# Altium footprint library EtherIOv2.PcbLib: 62 footprints (part 3 of 4)
Each footprint in its own frame and in the unit in brackets; x right, y up, seen from the top. Pads: shape width x height; smd on the part's side, far side on the other; paste and mask are expansions set on the pad; w line width, h text height; cw(c..) or ccw(c..) is an arc to the next point about the centre after c.
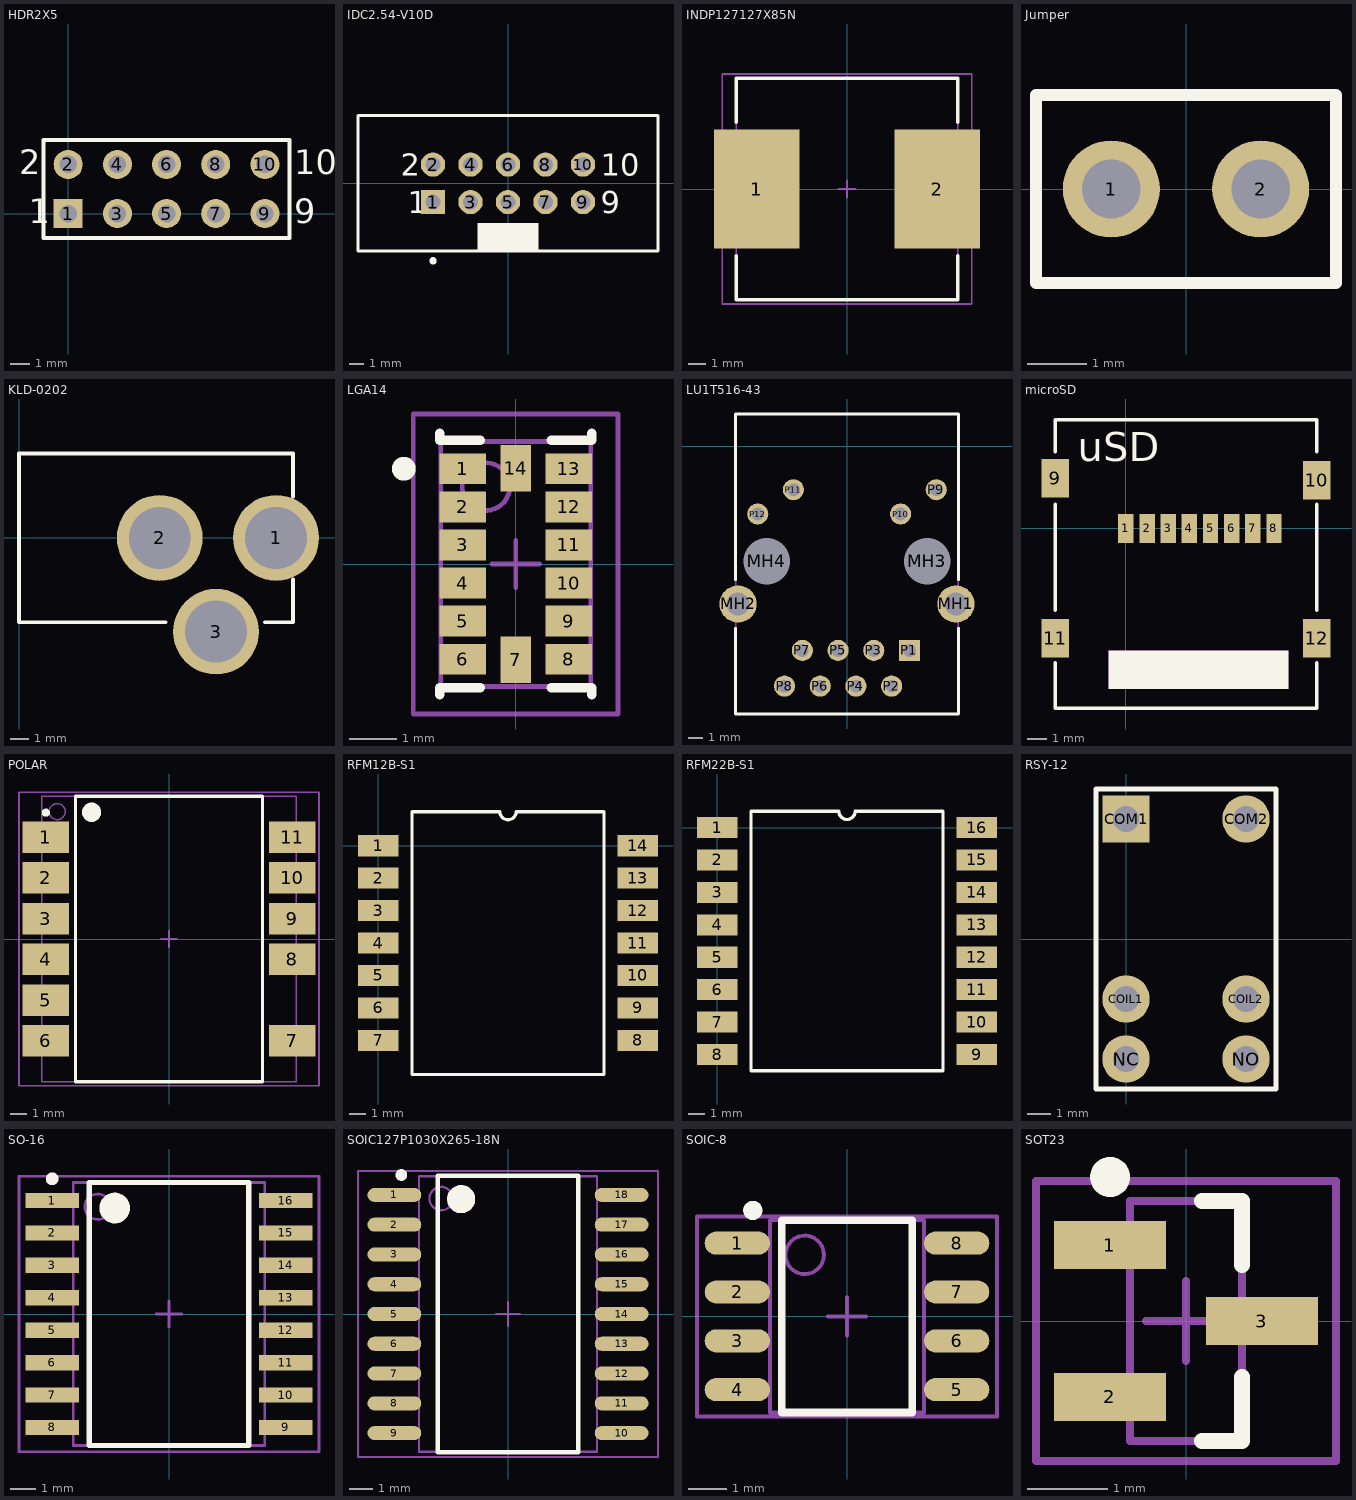
[diagram p2: the footprints below, top view; thin cyan lines are the x and y axes]

## HDR2X5 [mm] "Connector; Header; 5x2 Position"
pads (10):
  rect 1.5x1.5 hole 0.9: 1(0,0)
  round 1.5 hole 0.9: 2(0,2.54) 3(2.54,0) 4(2.54,2.54) 5(5.08,0) 6(5.08,2.54) 7(7.62,0) 8(7.62,2.54) 9(10.16,0) 10(10.16,2.54)
Top Overlay:
  lines w0.2: -1.27,-1.27 -1.27,3.81 11.43,3.81 11.43,-1.27 -1.27,-1.27
  text "2" at -2.54,2.032 h1.27
  text "1" at -2.032,-0.508 h1.27
  text "9" at 11.684,-0.508 h1.27
  text "10" at 11.684,2.032 h1.27

## IDC2.54-V10D [mm] "Connector; IDC, Low Profile Male Header, Thru-Hole; 10 Position; Vertical; Pitch 2.54 mm; Body 20.32 x 9.2 x 9.45 mm (LxWxH)"
height 9.45
pads (10):
  rect 1.65x1.65 hole 1: 1(-5.08,-1.27)
  round 1.65 hole 1: 2(-5.08,1.27) 3(-2.54,-1.27) 4(-2.54,1.27) 5(0,-1.27) 6(0,1.27) 7(2.54,-1.27) 8(2.54,1.27) 9(5.08,-1.27) 10(5.08,1.27)
Top Overlay:
  circle w0.25: c-5.08,-5.25 r0.125
  rectangle: -2.05,-4.6 2.05,-2.7
  lines w0.2: -10.16,-4.6 10.16,-4.6 10.16,4.6 -10.16,4.6 -10.16,-4.6
  text "9" at 6.28,-2.02 h1.5
  text "10" at 6.28,0.52 h1.5
  text "1" at -6.78,-2.02 h1.5
  text "2" at -7.28,0.52 h1.5
Mechanical 13:
  lines w0.1: -10.16,-4.6 -10.16,4.6 10.16,4.6 10.16,-4.6 -10.16,-4.6
3D body: height 9.45, standoff 0, extent -10.16,-4.6 10.16,4.6

## INDP127127X85N [mm] "Precision Wire Wound Inductor, 2-Leads, Body 12,7x12,7mm, IPC Medium Density"
height 8.5
pads (2):
  rect 5x7 smd: 1(-5.3,0) 2(5.3,0)
Top Overlay:
  lines w0.2: -6.5,-3.9 -6.5,-6.5 6.5,-6.5 6.5,-3.9 ; -6.5,3.9 -6.5,6.5 6.5,6.5 6.5,3.9
Mechanical 13:
  lines w0.1: -6.5,-6.5 -6.5,6.5 6.5,6.5 6.5,-6.5 -6.5,-6.5
Mechanical 15:
  lines w0.1: -0.5,0 0.5,0 ; 0,-0.5 0,0.5 ; -7.325,-6.75 -7.325,6.75 7.325,6.75 7.325,-6.75 -7.325,-6.75
3D body: height 8.5, standoff 0, extent -6.5,-6.5 6.5,6.5

## Jumper [mm] "Jumper, 2.54 pitch"
height 6
pads (2):
  round 1.65 hole 1: 1(-1.27,0) 2(1.27,0)
Top Overlay:
  lines w0.2: -2.55,-1.6 2.55,-1.6 2.55,1.6 -2.55,1.6 -2.55,-1.6

## KLD-0202 [mil] "DC Power Jack, 2.5mm, KLD Series, PCB Mount"
pads (3):
  round 180 hole 130: 1(539.37,0) 2(295.28,0) 3(413.39,-196.85)
Top Overlay:
  lines w7.87: 307.09,-177.17 0,-177.17 0,177.17 574.8,177.17 574.8,86.61 ; 515.75,-177.17 574.8,-177.17 574.8,-86.61

## LGA14 [mm] "LIS302"
height 1
pads (14):
  rect 0.975x0.65 smd: 1(-1.112,2) 2(-1.112,1.2) 3(-1.112,0.4) 4(-1.112,-0.4) 5(-1.112,-1.2) 6(-1.112,-2) 8(1.112,-2) 9(1.112,-1.2) 10(1.112,-0.4) 11(1.112,0.4) 12(1.112,1.2) 13(1.112,2)
  rect 0.65x0.975 smd: 7(0,-2.01) 14(0,2.01)
Top Overlay:
  circle w0.25: c-2.35,2 r0.125
  lines w0.2: -1.6,-2.75 -1.6,-2.6 -0.75,-2.6 ; -1.6,2.75 -1.6,2.6 -0.75,2.6 ; 0.75,-2.6 1.6,-2.6 1.6,-2.75 ; 0.75,2.6 1.6,2.6 1.6,2.75
Mechanical 13:
  circle w0.1: c-0.625,1.625 r0.5
  lines w0.1: -1.575,-2.575 1.575,-2.575 1.575,2.575 -1.575,2.575 -1.575,-2.575
Mechanical 15:
  lines w0.1: -0.5,0 0.5,0 ; 0,-0.5 0,0.5 ; -2.15,-3.15 2.15,-3.15 2.15,3.15 -2.15,3.15 -2.15,-3.15
3D body: height 1, standoff 0.18, extent -1.575,-2.575 1.575,2.575

## LU1T516-43 [mm] "Connector; PCB Jack, Thru-Hole; 1-Port, 8 Positions, 8 Loaded; Shielded without Lightpipes; Right Angle"
height 12.09
pads (16):
  round 2.65 hole 1.651: MH1(7.747,-11.227) MH2(-7.747,-11.227)
  round 2.95 hole 3.302 unplated: MH3(5.715,-8.179) MH4(-5.715,-8.179)
  rect 1.5x1.5 hole 0.9: P1(4.445,-14.529)
  round 1.5 hole 0.9: P2(3.175,-17.069) P3(1.905,-14.529) P4(0.635,-17.069) P5(-0.635,-14.529) P6(-1.905,-17.069) P7(-3.175,-14.529) P8(-4.445,-17.069) P9(6.35,-3.099) P10(3.81,-4.826) P11(-3.81,-3.099) P12(-6.35,-4.826)
Top Overlay:
  lines w0.2: -7.925,-12.951 -7.925,-19.05 7.925,-19.05 7.925,-12.951 ; -7.925,-9.503 -7.925,2.286 7.925,2.286 7.925,-9.503
Mechanical 13:
  lines w0.1: -7.925,-19.05 7.925,-19.05 7.925,2.286 -7.925,2.286 -7.925,-19.05
3D body: height 12.09, standoff 0, extent -7.874,-19.05 7.874,2.286

## microSD [mm]
pads (12):
  rect 0.8x1.5 smd: 1(0,0) 2(1.1,0) 3(2.2,0) 4(3.3,0) 5(4.4,0) 6(5.5,0) 7(6.6,0) 8(7.7,0)
  rect 1.45x2 smd: 9(-3.675,2.6) 10(9.925,2.5) 11(-3.675,-5.7) 12(9.925,-5.7)
Top Overlay:
  lines w0.2: -3.675,-7 -3.675,-9.35 9.925,-9.35 9.925,-7 ; -3.675,-4.25 -3.675,1.25 ; -3.675,4 -3.675,5.65 9.925,5.65 9.925,4 ; 9.925,-4.25 9.925,1.25
  text "uSD" at -2.5,3.5 h1.52
Top Overlay keep-out:
  rectangle: -0.895,-8.35 8.455,-6.35

## POLAR [mm] "POLAR MODULE"
height 8
pads (11):
  rect 2.9x1.95 smd: 1(-7.675,6.35) 2(-7.675,3.81) 3(-7.675,1.27) 4(-7.675,-1.27) 5(-7.675,-3.81) 6(-7.675,-6.35) 7(7.675,-6.35) 8(7.675,-1.27) 9(7.675,1.27) 10(7.675,3.81) 11(7.675,6.35)
Top Overlay:
  circle w0.25: c-7.675,7.875 r0.125
  circle w0.6: c-4.825,7.9 r0.3
  lines w0.2: -5.825,-8.9 -5.825,8.9 5.825,8.9 5.825,-8.9 -5.825,-8.9
Mechanical 13:
  circle w0.1: c-6.97,7.94 r0.5
  lines w0.1: -7.92,-8.89 -7.92,8.89 7.92,8.89 7.92,-8.89 -7.92,-8.89
Mechanical 15:
  lines w0.1: -0.5,0 0.5,0 ; 0,-0.5 0,0.5 ; -9.35,-9.15 -9.35,9.15 9.35,9.15 9.35,-9.15 -9.35,-9.15
3D body: height 8, standoff 1, extent -7.92,-8.89 7.92,8.89

## RFM12B-S1 [mm]
pads (14):
  rect 2.5x1.3 smd: 1(0,0) 2(0,-2) 3(0,-4) 4(0,-6) 5(0,-8) 6(0,-10) 7(0,-12) 8(16,-12) 9(16,-10) 10(16,-8) 11(16,-6) 12(16,-4) 13(16,-2) 14(16,0)
Top Overlay:
  lines w0.2: 2.085,-14.1 2.085,2.085 2.1,2.1 7.5,2.1 ccw(c8,2.1) 8.5,2.1 13.915,2.1 13.915,-14.1 2.085,-14.1

## RFM22B-S1 [mm]
pads (16):
  rect 2.5x1.3 smd: 1(0,0) 2(0,-2) 3(0,-4) 4(0,-6) 5(0,-8) 6(0,-10) 7(0,-12) 8(0,-14) 9(16,-14) 10(16,-12) 11(16,-10) 12(16,-8) 13(16,-6) 14(16,-4) 15(16,-2) 16(16,0)
Top Overlay:
  lines w0.2: 2.085,-15 13.915,-15 13.915,1 8.5,1 cw(c8,1) 7.5,1 2.085,1 2.085,-15

## RSY-12 [mm]
pads (6):
  round 2 hole 1.1: COIL1(0,-2.54) COIL2(5.08,-2.54) COM2(5.08,5.08) NC(0,-5.08) NO(5.08,-5.08)
  rect 2x2 hole 1.1: COM1(0,5.08)
Top Overlay:
  lines w0.2: -1.27,-6.35 6.35,-6.35 6.35,6.35 -1.27,6.35 -1.27,-6.35

## SO-16 [mm] "FLASH"
height 2.65
pads (16):
  rect 2.1x0.6 smd: 1(-4.575,4.445) 2(-4.575,3.175) 3(-4.575,1.905) 4(-4.575,0.635) 5(-4.575,-0.635) 6(-4.575,-1.905) 7(-4.575,-3.175) 8(-4.575,-4.445) 9(4.575,-4.445) 10(4.575,-3.175) 11(4.575,-1.905) 12(4.575,-0.635) 13(4.575,0.635) 14(4.575,1.905) 15(4.575,3.175) 16(4.575,4.445)
Top Overlay:
  circle w0.6: c-2.125,4.15 r0.3
  circle w0.25: c-4.575,5.295 r0.125
  lines w0.2: -3.125,-5.15 3.125,-5.15 3.125,5.15 -3.125,5.15 -3.125,-5.15
Mechanical 13:
  circle w0.1: c-2.8,4.2 r0.5
  lines w0.1: -3.75,-5.15 3.75,-5.15 3.75,5.15 -3.75,5.15 -3.75,-5.15
Mechanical 15:
  lines w0.1: -0.5,0 0.5,0 ; 0,-0.5 0,0.5 ; -5.875,-5.4 5.875,-5.4 5.875,5.4 -5.875,5.4 -5.875,-5.4
3D body: height 2.65, standoff 0.1, extent -3.75,-5.15 3.75,5.15

## SOIC127P1030X265-18N [mm] "SOIC, 18-Leads, Body 11,8x7,6mm (max), Pitch 1,27mm, IPC Medium Density"
height 2.65
pads (18):
  oval 2.3x0.6 smd: 1(-4.85,5.08) 2(-4.85,3.81) 3(-4.85,2.54) 4(-4.85,1.27) 5(-4.85,0) 6(-4.85,-1.27) 7(-4.85,-2.54) 8(-4.85,-3.81) 9(-4.85,-5.08) 10(4.85,-5.08) 11(4.85,-3.81) 12(4.85,-2.54) 13(4.85,-1.27) 14(4.85,0) 15(4.85,1.27) 16(4.85,2.54) 17(4.85,3.81) 18(4.85,5.08)
Top Overlay:
  circle w0.6: c-2,4.9 r0.3
  circle w0.25: c-4.55,5.93 r0.125
  lines w0.2: -3,-5.9 3,-5.9 3,5.9 -3,5.9 -3,-5.9
Mechanical 13:
  circle w0.1: c-2.85,4.925 r0.5
  lines w0.1: -3.8,-5.875 3.8,-5.875 3.8,5.875 -3.8,5.875 -3.8,-5.875
Mechanical 15:
  lines w0.1: -0.5,0 0.5,0 ; 0,-0.5 0,0.5 ; -6.4,-6.1 6.4,-6.1 6.4,6.1 -6.4,6.1 -6.4,-6.1
3D body: height 2.65, standoff 0.1, extent -3.8,-5.875 3.8,5.875

## SOIC-8 [mm] "SOIC, 8-Leads, Body 4.9x3.9mm, Pitch 1.27mm, IPC High Density"
height 2.72
pads (8):
  oval 1.7x0.6 smd: 1(-2.85,1.905) 2(-2.85,0.635) 3(-2.85,-0.635) 4(-2.85,-1.905) 5(2.85,-1.905) 6(2.85,-0.635) 7(2.85,0.635) 8(2.85,1.905)
Top Overlay:
  circle w0.25: c-2.45,2.755 r0.125
  lines w0.2: -1.7,-2.5 1.7,-2.5 1.7,2.5 -1.7,2.5 -1.7,-2.5
Mechanical 13:
  circle w0.1: c-1.1,1.6 r0.5
  lines w0.1: -2,-2.5 2,-2.5 2,2.5 -2,2.5 -2,-2.5
Mechanical 15:
  lines w0.1: -0.5,0 0.5,0 ; 0,-0.5 0,0.5 ; -3.9,-2.6 3.9,-2.6 3.9,2.6 -3.9,2.6 -3.9,-2.6
3D body: height 2.72, standoff 0, extent -2,-2.5 2,2.5

## SOT23 [mm] "SOT23, 3-Leads, Body 3,0x2,5mm (max), Pitch 0,95mm, IPC Medium Density"
height 1.1
pads (3):
  rect 1.4x0.6 smd: 1(-0.95,0.95) 2(-0.95,-0.95) 3(0.95,0)
Top Overlay:
  circle w0.25: c-0.95,1.8 r0.125
  lines w0.2: 0.2,-1.5 0.7,-1.5 0.7,-0.7 ; 0.2,1.5 0.7,1.5 0.7,0.7
Mechanical 13:
  lines w0.1: -0.7,-1.5 -0.7,1.5 0.7,1.5 0.7,-1.5 -0.7,-1.5
Mechanical 15:
  lines w0.1: -0.5,0 0.5,0 ; 0,-0.5 0,0.5 ; -1.875,-1.75 -1.875,1.75 1.875,1.75 1.875,-1.75 -1.875,-1.75
3D body: height 1.1, standoff 0.1, extent -0.7,-1.5 0.7,1.5